# Altium schematic symbol library MB0002A.01.A.2.SchLib: 1 symbol
Pins are listed as number, name and electrical type; pins without a type are passive.

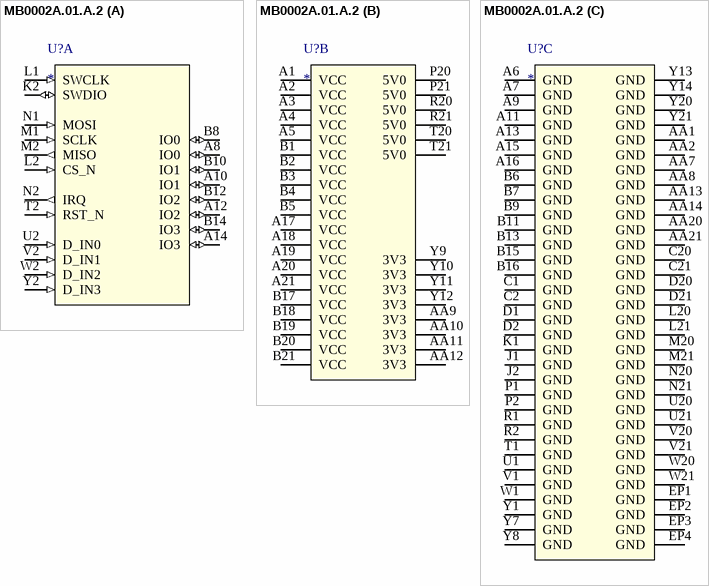
[diagram p0: symbol MB0002A.01.A.2]

## MB0002A.01.A.2
designator U?
part A pins: A8 IO0 (io), A10 IO1 (io), A12 IO2 (io), A14 IO3 (io), B8 IO0 (io), B10 IO1 (io), B12 IO2 (io), B14 IO3 (io), K2 SWDIO (io), L1 SWCLK (in), L2 CS_N (in), M1 SCLK (in), M2 MISO (out), N1 MOSI (in), N2 IRQ (out), T2 RST_N (in), U2 D_IN0 (in), V2 D_IN1 (in), W2 D_IN2 (in), Y2 D_IN3 (in)
part B pins: A1 VCC (power), A2 VCC (power), A3 VCC (power), A4 VCC (power), A5 VCC (power), A17 VCC (power), A18 VCC (power), A19 VCC (power), A20 VCC (power), A21 VCC (power), AA9 3V3 (power), AA10 3V3 (power), AA11 3V3 (power), AA12 3V3 (power), B1 VCC (power), B2 VCC (power), B3 VCC (power), B4 VCC (power), B5 VCC (power), B17 VCC (power), B18 VCC (power), B19 VCC (power), B20 VCC (power), B21 VCC (power), P20 5V0 (power), P21 5V0 (power), R20 5V0 (power), R21 5V0 (power), T20 5V0 (power), T21 5V0 (power), Y9 3V3 (power), Y10 3V3 (power), Y11 3V3 (power), Y12 3V3 (power)
part C pins: A6 GND (power), A7 GND (power), A9 GND (power), A11 GND (power), A13 GND (power), A15 GND (power), A16 GND (power), AA1 GND (power), AA2 GND (power), AA7 GND (power), AA8 GND (power), AA13 GND (power), AA14 GND (power), AA20 GND (power), AA21 GND (power), B6 GND (power), B7 GND (power), B9 GND (power), B11 GND (power), B13 GND (power), B15 GND (power), B16 GND (power), C1 GND (power), C2 GND (power), C20 GND (power), C21 GND (power), D1 GND (power), D2 GND (power), D20 GND (power), D21 GND (power), EP1 GND (power), EP2 GND (power), EP3 GND (power), EP4 GND (power), J1 GND (power), J2 GND (power), K1 GND (power), L20 GND (power), L21 GND (power), M20 GND (power), M21 GND (power), N20 GND (power), N21 GND (power), P1 GND (power), P2 GND (power), R1 GND (power), R2 GND (power), T1 GND (power), U1 GND (power), U20 GND (power), U21 GND (power), V1 GND (power), V20 GND (power), V21 GND (power), W1 GND (power), W20 GND (power), W21 GND (power), Y1 GND (power), Y7 GND (power), Y8 GND (power), Y13 GND (power), Y14 GND (power), Y20 GND (power), Y21 GND (power)